# EAGLE library part MCP2551-I/P-ND (library UBCSolar)
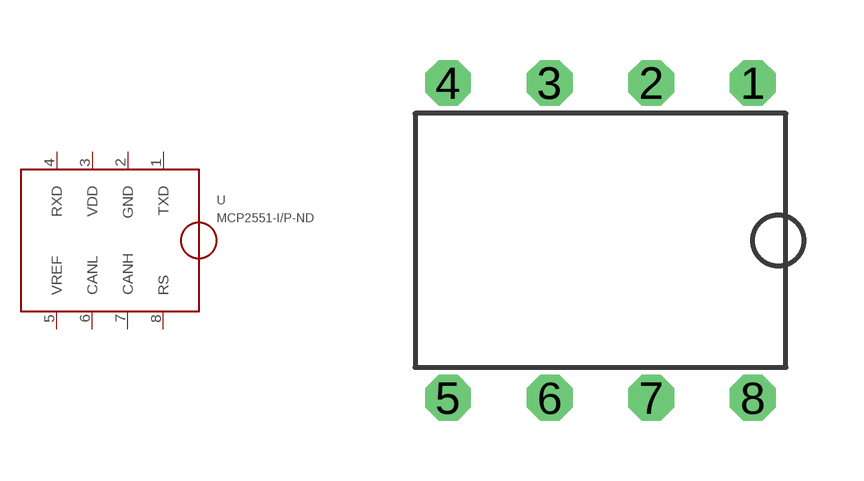
[diagram p0: symbol with the pads of MCP2551-I/P-ND; footprint MCP2551-I/P-ND]

Designator prefix -

## MCP2551-I/P-ND  [MCP2551-I/P-ND]
1  TXD
2  GND
3  VDD
4  RXD
5  VREF
6  CANL
7  CANH
8  RS

## Footprint MCP2551-I/P-ND (pad centres in mm)
drill 0.64 octagon: 1 3.81,3.937; 2 1.27,3.937; 3 -1.27,3.937; 4 -3.81,3.937; 5 -3.81,-3.937; 6 -1.27,-3.937; 7 1.27,-3.937; 8 3.81,-3.937